# Altium schematic symbol library Timer_PLL.SchLib: 21 symbols
Pins are listed as number, name and electrical type; pins without a type are passive.

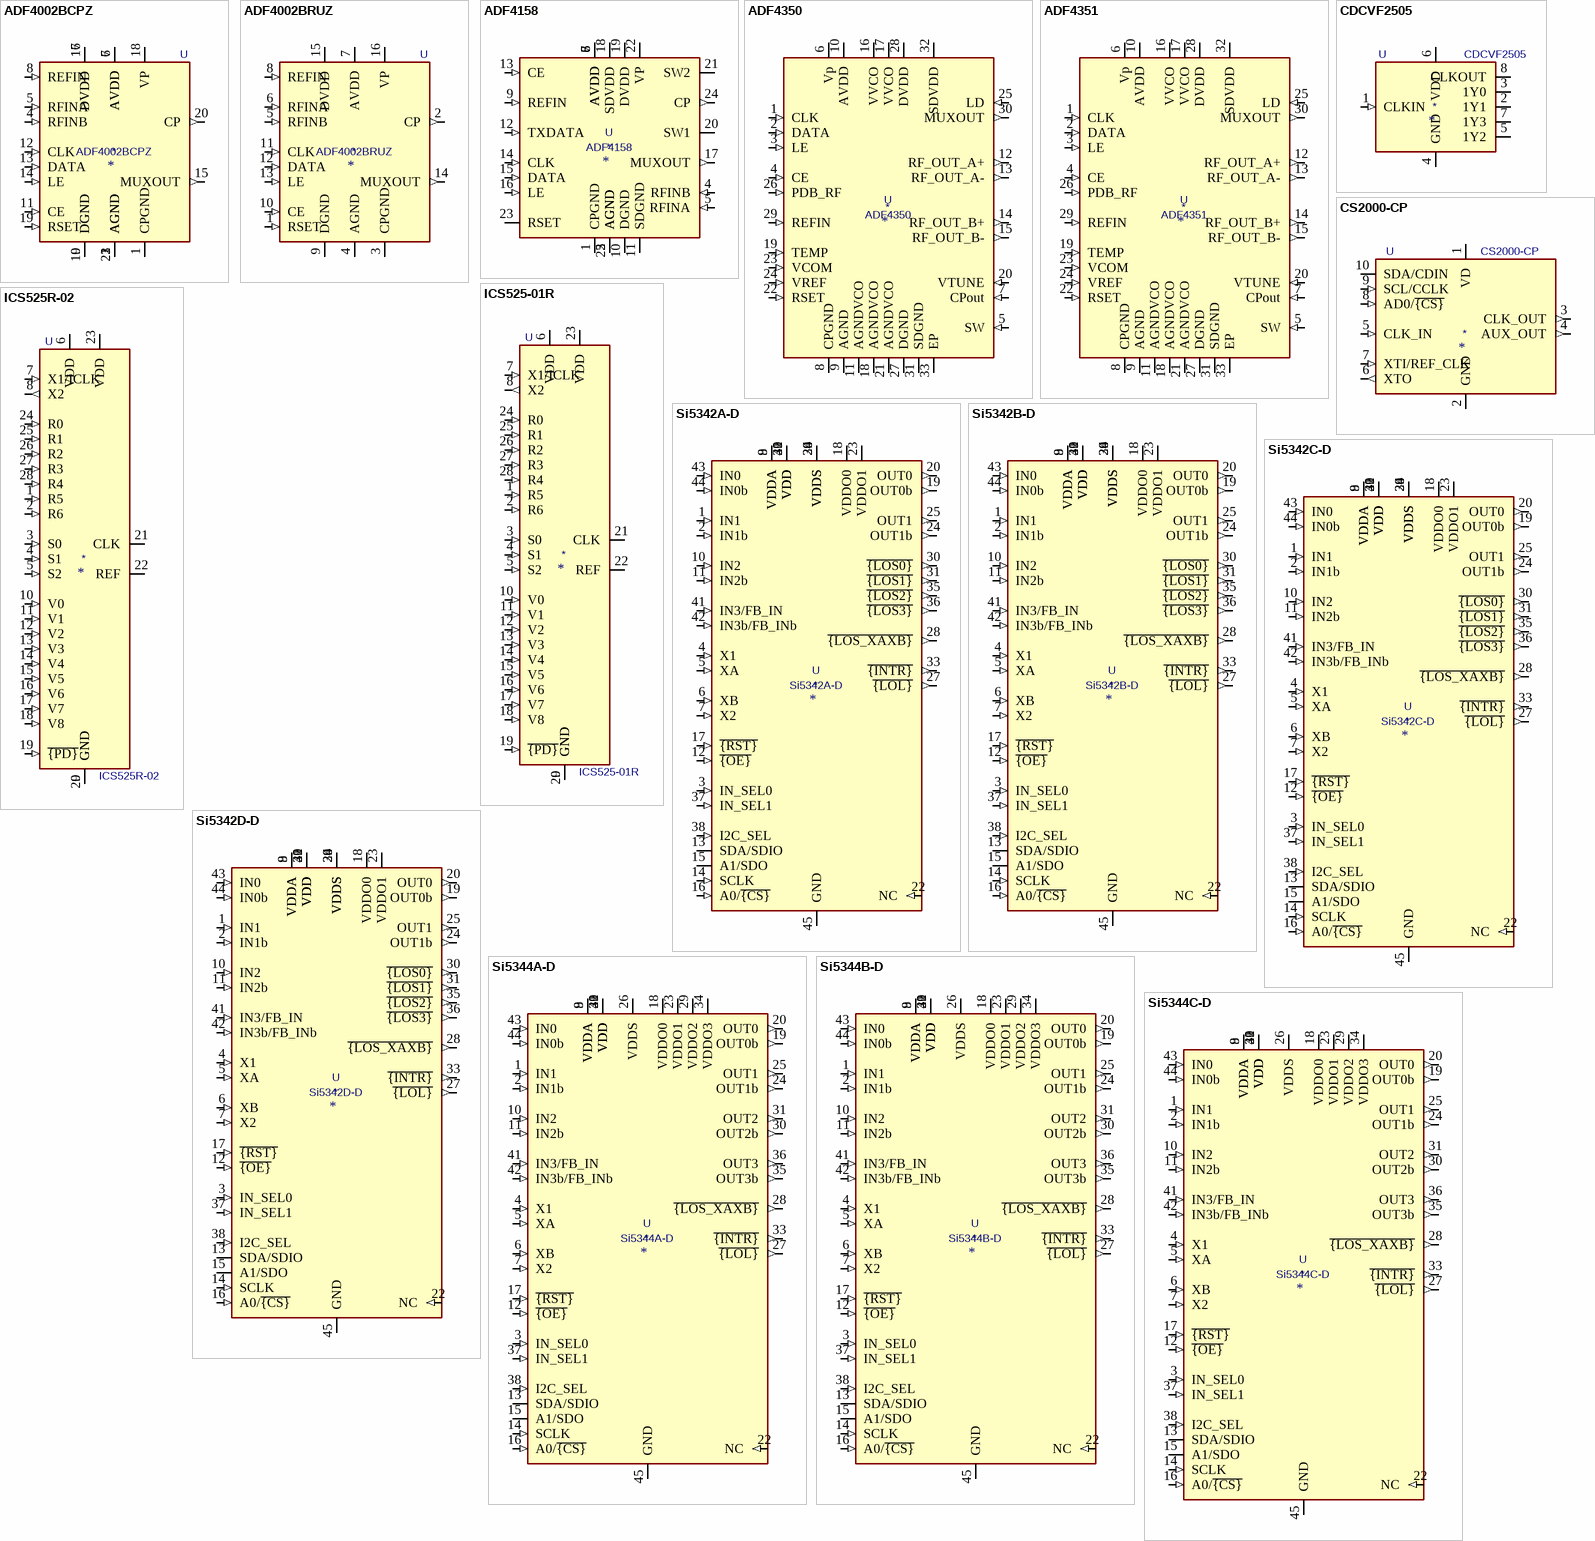
[diagram p0: symbols ADF4002BCPZ to Si5344C-D]

## ADF4002BCPZ
designator *  value ADF4002BCPZ  Reference: U
400MHz Bandwidth Frequency Synthesizer, LFCSP-20; ki_keywords: Analog Devices PFD; ki_fp_filters: LFCSP*1EP*4x4mm*P0.5mm*; Footprint: Package_CSP:LFCSP-20-1EP_4x4mm_P0.5mm_EP2.1x2.1mm; Datasheet: https://www.analog.com/media/en/technical-documentation/data-sheets/ADF4002.pdf; Description_: 400MHz Bandwidth Frequency Synthesizer, LFCSP-20
pins: 1 CPGND (power), 2 AGND (power), 3 AGND, 4 RFINB (in), 5 RFINA (in), 6 AVDD, 7 AVDD (power), 8 REFIN (in), 9 DGND (power), 10 DGND, 11 CE (in), 12 CLK (in), 13 DATA (in), 14 LE (in), 15 MUXOUT (out), 16 DVDD (power), 17 DVDD, 18 VP (power), 19 RSET (in), 20 CP (out), 21 AGND

## ADF4002BRUZ
designator *  value ADF4002BRUZ  Reference: U
400MHz Bandwidth Frequency Synthesizer, TSSOP-16; ki_keywords: Analog Devices PFD; ki_fp_filters: TSSOP*4.4x5mm*P0.65mm*; Footprint: Package_SO:TSSOP-16_4.4x5mm_P0.65mm; Datasheet: https://www.analog.com/media/en/technical-documentation/data-sheets/ADF4002.pdf; Description_: 400MHz Bandwidth Frequency Synthesizer, TSSOP-16
pins: 1 RSET (in), 2 CP (out), 3 CPGND (power), 4 AGND (power), 5 RFINB (in), 6 RFINA (in), 7 AVDD (power), 8 REFIN (in), 9 DGND (power), 10 CE (in), 11 CLK (in), 12 DATA (in), 13 LE (in), 14 MUXOUT (out), 15 DVDD (power), 16 VP (power)

## ADF4158
designator *  value ADF4158  Reference: U
0.5-6.1GHz fractional-N PLL, LFCSP-24; ki_fp_filters: LFCSP*1EP*4x4mm*P0.5mm*; Footprint: Package_CSP:LFCSP-24-1EP_4x4mm_P0.5mm_EP2.5x2.5mm; Datasheet: https://www.analog.com/media/en/technical-documentation/data-sheets/ADF4158.pdf; Description_: 0.5-6.1GHz fractional-N PLL, LFCSP-24; ki_keywords: fractional-N PLL
pins: 1 CPGND (power), 2 AGND (power), 3 AGND, 4 RFINB (in), 5 RFINA (in), 6 AVDD (power), 7 AVDD, 8 AVDD, 9 REFIN (in), 10 DGND (power), 11 SDGND (power), 12 TXDATA (in), 13 CE (in), 14 CLK (in), 15 DATA (in), 16 LE (in), 17 MUXOUT (out), 18 SDVDD (power), 19 DVDD (power), 20 SW1, 21 SW2, 22 VP (power), 23 RSET, 24 CP (out), 25 AGND

## ADF4350
designator *  value ADF4350  Reference: U
137.5-4400MHz fractional-N PLL, LFCSP-32; ki_fp_filters: LFCSP*32*1EP*5x5mm*P0.5mm*EP3.25x3.25mm*; Footprint: Package_CSP:LFCSP-32-1EP_5x5mm_P0.5mm_EP3.25x3.25mm; Datasheet: https://www.analog.com/media/en/technical-documentation/data-sheets/ADF4350.pdf; Description_: 137.5-4400MHz fractional-N PLL, LFCSP-32; ki_keywords: fractional-N PLL
pins: 1 CLK (in), 2 DATA (in), 3 LE (in), 4 CE (in), 5 SW (in), 6 Vp (power), 7 CPout (in), 8 CPGND (power), 9 AGND (power), 10 AVDD (power), 11 AGNDVCO (power), 12 RF_OUT_A+ (out), 13 RF_OUT_A- (out), 14 RF_OUT_B+ (out), 15 RF_OUT_B- (out), 16 VVCO (power), 17 VVCO (power), 18 AGNDVCO (power), 19 TEMP (in), 20 VTUNE (in), 21 AGNDVCO (power), 22 RSET (in), 23 VCOM (in), 24 VREF (in), 25 LD (in), 26 PDB_RF (in), 27 DGND (power), 28 DVDD (power), 29 REFIN (in), 30 MUXOUT (out), 31 SDGND (power), 32 SDVDD (power), 33 EP (power)

## ADF4351
designator *  value ADF4351  Reference: U
35-4400MHz fractional-N PLL, LFCSP-32; ki_fp_filters: LFCSP*32*1EP*5x5mm*P0.5mm*EP3.25x3.25mm*; Footprint: Package_CSP:LFCSP-32-1EP_5x5mm_P0.5mm_EP3.25x3.25mm; Datasheet: https://www.analog.com/media/en/technical-documentation/data-sheets/ADF4351.pdf; Description_: 35-4400MHz fractional-N PLL, LFCSP-32; ki_keywords: fractional-N PLL
pins: 1 CLK (in), 2 DATA (in), 3 LE (in), 4 CE (in), 5 SW (in), 6 Vp (power), 7 CPout (in), 8 CPGND (power), 9 AGND (power), 10 AVDD (power), 11 AGNDVCO (power), 12 RF_OUT_A+ (out), 13 RF_OUT_A- (out), 14 RF_OUT_B+ (out), 15 RF_OUT_B- (out), 16 VVCO (power), 17 VVCO (power), 18 AGNDVCO (power), 19 TEMP (in), 20 VTUNE (in), 21 AGNDVCO (power), 22 RSET (in), 23 VCOM (in), 24 VREF (in), 25 LD (in), 26 PDB_RF (in), 27 DGND (power), 28 DVDD (power), 29 REFIN (in), 30 MUXOUT (out), 31 SDGND (power), 32 SDVDD (power), 33 EP (power)

## CDCVF2505
designator *  value CDCVF2505  Reference: U
Clock Phase-Lock Loop Clock Driver, 24-200MHz, 3.3V, SOIC-8/TSSOP-8; ki_keywords: pll clock driver; ki_fp_filters: SOIC*3.9x4.9mm*P1.27mm* TSSOP*4.4x3mm*P0.65mm*; Datasheet: http://www.ti.com/lit/ds/symlink/cdcvf2505.pdf; Description_: Clock Phase-Lock Loop Clock Driver, 24-200MHz, 3.3V, SOIC-8/TSSOP-8
pins: 1 CLKIN (in), 2 1Y1 (hiz), 3 1Y0 (hiz), 4 GND (power), 5 1Y2 (hiz), 6 VDD (power), 7 1Y3 (hiz), 8 CLKOUT (hiz)

## CS2000-CP
designator *  value CS2000-CP  Reference: U
Fractional-N Clock Synthesizer & Clock Multiplier, MSOP-10; ki_keywords: Clock Synthesizer Multiplier; ki_fp_filters: MSOP*3x3mm*P0.5mm*; Footprint: Package_SO:MSOP-10_3x3mm_P0.5mm; Datasheet: https://statics.cirrus.com/pubs/proDatasheet/CS2000-CP_F3.pdf; Description_: Fractional-N Clock Synthesizer & Clock Multiplier, MSOP-10
pins: 1 VD (power), 2 GND (power), 3 CLK_OUT (out), 4 AUX_OUT (out), 5 CLK_IN (in), 6 XTO (out), 7 XTI/REF_CLK (in), 8 AD0/~{{CS}} (in), 9 SCL/CCLK (in), 10 SDA/CDIN (io)

## ICS525-01R
designator *  value ICS525-01R  Reference: U
User configurable clock up to 160 MHz, SSOP-28; ki_fp_filters: SSOP*3.9x9.9mm*P0.635mm*; Footprint: Package_SO:SSOP-28_3.9x9.9mm_P0.635mm; Datasheet: https://www.idt.com/document/dst/525-01-02-datasheet; Description_: User configurable clock up to 160 MHz, SSOP-28; ki_keywords: Configurable clock
pins: 1 R5 (in), 2 R6 (in), 3 S0 (in), 4 S1 (in), 5 S2 (in), 6 VDD (power), 7 X1/ICLK (in), 8 X2 (out), 9 GND (power), 10 V0 (in), 11 V1 (in), 12 V2 (in), 13 V3 (in), 14 V4 (in), 15 V5 (in), 16 V6 (in), 17 V7 (in), 18 V8 (in), 19 ~{{PD}} (in), 20 GND, 21 CLK (hiz), 22 REF (hiz), 23 VDD (power), 24 R0 (in), 25 R1 (in), 26 R2 (in), 27 R3 (in), 28 R4 (in)

## ICS525R-02
designator *  value ICS525R-02  Reference: U
User configurable clock up to 200 MHz, SSOP-28; ki_fp_filters: SSOP*3.9x9.9mm*P0.635mm*; Footprint: Package_SO:SSOP-28_3.9x9.9mm_P0.635mm; Datasheet: https://www.idt.com/document/dst/525-01-02-datasheet; Description_: User configurable clock up to 200 MHz, SSOP-28; ki_keywords: Configurable clock
pins: 1 R5 (in), 2 R6 (in), 3 S0 (in), 4 S1 (in), 5 S2 (in), 6 VDD (power), 7 X1/ICLK (in), 8 X2 (out), 9 GND (power), 10 V0 (in), 11 V1 (in), 12 V2 (in), 13 V3 (in), 14 V4 (in), 15 V5 (in), 16 V6 (in), 17 V7 (in), 18 V8 (in), 19 ~{{PD}} (in), 20 GND, 21 CLK (hiz), 22 REF (hiz), 23 VDD (power), 24 R0 (in), 25 R1 (in), 26 R2 (in), 27 R3 (in), 28 R4 (in)

## Si5342A-D
designator *  value Si5342A-D  Reference: U
Jitter Attenuator/Clock Multiplier, 2 channel, Fractional, 0.001-1028 MHz, QFN-44; ki_keywords: Clock Jitter Attenuator Multiplier; ki_fp_filters: QFN*1EP*7x7mm*P0.5mm*; Footprint: Package_DFN_QFN:QFN-44-1EP_7x7mm_P0.5mm_EP5.2x5.2mm; Datasheet: https://www.silabs.com/documents/public/data-sheets/Si5345-44-42-D-DataSheet.pdf; Description_: Jitter Attenuator/Clock Multiplier, 2 channel, Fractional, 0.001-1028 MHz, QFN-44
pins: 1 IN1 (in), 2 IN1b (in), 3 IN_SEL0 (in), 4 X1 (in), 5 XA (in), 6 XB (in), 7 X2 (in), 8 VDDA (power), 9 VDDA, 10 IN2 (in), 11 IN2b (in), 12 ~{{OE}} (in), 13 SDA/SDIO (io), 14 SCLK (in), 15 A1/SDO (io), 16 A0/~{{CS}} (in), 17 ~{{RST}} (in), 18 VDDO0 (power), 19 OUT0b (out), 20 OUT0 (out), 21 VDD (power), 22 NC (in), 23 VDDO1 (power), 24 OUT1b (out), 25 OUT1 (out), 26 VDDS (power), 27 ~{{LOL}} (out), 28 ~{{LOS_XAXB}} (out), 29 VDDS, 30 ~{{LOS0}} (out), 31 ~{{LOS1}} (out), 32 VDD, 33 ~{{INTR}} (out), 34 VDDS, 35 ~{{LOS2}} (out), 36 ~{{LOS3}} (out), 37 IN_SEL1 (in), 38 I2C_SEL (in), 39 VDD, 40 VDD, 41 IN3/FB_IN (in), 42 IN3b/FB_INb (in), 43 IN0 (in), 44 IN0b (in), 45 GND (power)

## Si5342B-D
designator *  value Si5342B-D  Reference: U
Jitter Attenuator/Clock Multiplier, 2 channel, Fractional, 0.001-350 MHz, QFN-44; ki_keywords: Clock Jitter Attenuator Multiplier; ki_fp_filters: QFN*1EP*7x7mm*P0.5mm*; Footprint: Package_DFN_QFN:QFN-44-1EP_7x7mm_P0.5mm_EP5.2x5.2mm; Datasheet: https://www.silabs.com/documents/public/data-sheets/Si5345-44-42-D-DataSheet.pdf; Description_: Jitter Attenuator/Clock Multiplier, 2 channel, Fractional, 0.001-350 MHz, QFN-44
pins: 1 IN1 (in), 2 IN1b (in), 3 IN_SEL0 (in), 4 X1 (in), 5 XA (in), 6 XB (in), 7 X2 (in), 8 VDDA (power), 9 VDDA, 10 IN2 (in), 11 IN2b (in), 12 ~{{OE}} (in), 13 SDA/SDIO (io), 14 SCLK (in), 15 A1/SDO (io), 16 A0/~{{CS}} (in), 17 ~{{RST}} (in), 18 VDDO0 (power), 19 OUT0b (out), 20 OUT0 (out), 21 VDD (power), 22 NC (in), 23 VDDO1 (power), 24 OUT1b (out), 25 OUT1 (out), 26 VDDS (power), 27 ~{{LOL}} (out), 28 ~{{LOS_XAXB}} (out), 29 VDDS, 30 ~{{LOS0}} (out), 31 ~{{LOS1}} (out), 32 VDD, 33 ~{{INTR}} (out), 34 VDDS, 35 ~{{LOS2}} (out), 36 ~{{LOS3}} (out), 37 IN_SEL1 (in), 38 I2C_SEL (in), 39 VDD, 40 VDD, 41 IN3/FB_IN (in), 42 IN3b/FB_INb (in), 43 IN0 (in), 44 IN0b (in), 45 GND (power)

## Si5342C-D
designator *  value Si5342C-D  Reference: U
Jitter Attenuator/Clock Multiplier, 2 channel, Integer, 0.001-1028 MHz, QFN-44; ki_keywords: Clock Jitter Attenuator Multiplier; ki_fp_filters: QFN*1EP*7x7mm*P0.5mm*; Footprint: Package_DFN_QFN:QFN-44-1EP_7x7mm_P0.5mm_EP5.2x5.2mm; Datasheet: https://www.silabs.com/documents/public/data-sheets/Si5345-44-42-D-DataSheet.pdf; Description_: Jitter Attenuator/Clock Multiplier, 2 channel, Integer, 0.001-1028 MHz, QFN-44
pins: 1 IN1 (in), 2 IN1b (in), 3 IN_SEL0 (in), 4 X1 (in), 5 XA (in), 6 XB (in), 7 X2 (in), 8 VDDA (power), 9 VDDA, 10 IN2 (in), 11 IN2b (in), 12 ~{{OE}} (in), 13 SDA/SDIO (io), 14 SCLK (in), 15 A1/SDO (io), 16 A0/~{{CS}} (in), 17 ~{{RST}} (in), 18 VDDO0 (power), 19 OUT0b (out), 20 OUT0 (out), 21 VDD (power), 22 NC (in), 23 VDDO1 (power), 24 OUT1b (out), 25 OUT1 (out), 26 VDDS (power), 27 ~{{LOL}} (out), 28 ~{{LOS_XAXB}} (out), 29 VDDS, 30 ~{{LOS0}} (out), 31 ~{{LOS1}} (out), 32 VDD, 33 ~{{INTR}} (out), 34 VDDS, 35 ~{{LOS2}} (out), 36 ~{{LOS3}} (out), 37 IN_SEL1 (in), 38 I2C_SEL (in), 39 VDD, 40 VDD, 41 IN3/FB_IN (in), 42 IN3b/FB_INb (in), 43 IN0 (in), 44 IN0b (in), 45 GND (power)

## Si5342D-D
designator *  value Si5342D-D  Reference: U
Jitter Attenuator/Clock Multiplier, 2 channel, Integer, 0.001-350 MHz, QFN-44; ki_keywords: Clock Jitter Attenuator Multiplier; ki_fp_filters: QFN*1EP*7x7mm*P0.5mm*; Footprint: Package_DFN_QFN:QFN-44-1EP_7x7mm_P0.5mm_EP5.2x5.2mm; Datasheet: https://www.silabs.com/documents/public/data-sheets/Si5345-44-42-D-DataSheet.pdf; Description_: Jitter Attenuator/Clock Multiplier, 2 channel, Integer, 0.001-350 MHz, QFN-44
pins: 1 IN1 (in), 2 IN1b (in), 3 IN_SEL0 (in), 4 X1 (in), 5 XA (in), 6 XB (in), 7 X2 (in), 8 VDDA (power), 9 VDDA, 10 IN2 (in), 11 IN2b (in), 12 ~{{OE}} (in), 13 SDA/SDIO (io), 14 SCLK (in), 15 A1/SDO (io), 16 A0/~{{CS}} (in), 17 ~{{RST}} (in), 18 VDDO0 (power), 19 OUT0b (out), 20 OUT0 (out), 21 VDD (power), 22 NC (in), 23 VDDO1 (power), 24 OUT1b (out), 25 OUT1 (out), 26 VDDS (power), 27 ~{{LOL}} (out), 28 ~{{LOS_XAXB}} (out), 29 VDDS, 30 ~{{LOS0}} (out), 31 ~{{LOS1}} (out), 32 VDD, 33 ~{{INTR}} (out), 34 VDDS, 35 ~{{LOS2}} (out), 36 ~{{LOS3}} (out), 37 IN_SEL1 (in), 38 I2C_SEL (in), 39 VDD, 40 VDD, 41 IN3/FB_IN (in), 42 IN3b/FB_INb (in), 43 IN0 (in), 44 IN0b (in), 45 GND (power)

## Si5344A-D
designator *  value Si5344A-D  Reference: U
Jitter Attenuator/Clock Multiplier, 4 channel, Fractional, 0.001-1028 MHz, QFN-44; ki_keywords: Clock Jitter Attenuator Multiplier; ki_fp_filters: QFN*1EP*7x7mm*P0.5mm*; Footprint: Package_DFN_QFN:QFN-44-1EP_7x7mm_P0.5mm_EP5.2x5.2mm; Datasheet: https://www.silabs.com/documents/public/data-sheets/Si5345-44-42-D-DataSheet.pdf; Description_: Jitter Attenuator/Clock Multiplier, 4 channel, Fractional, 0.001-1028 MHz, QFN-44
pins: 1 IN1 (in), 2 IN1b (in), 3 IN_SEL0 (in), 4 X1 (in), 5 XA (in), 6 XB (in), 7 X2 (in), 8 VDDA (power), 9 VDDA, 10 IN2 (in), 11 IN2b (in), 12 ~{{OE}} (in), 13 SDA/SDIO (io), 14 SCLK (in), 15 A1/SDO (io), 16 A0/~{{CS}} (in), 17 ~{{RST}} (in), 18 VDDO0 (power), 19 OUT0b (out), 20 OUT0 (out), 21 VDD (power), 22 NC (in), 23 VDDO1 (power), 24 OUT1b (out), 25 OUT1 (out), 26 VDDS (power), 27 ~{{LOL}} (out), 28 ~{{LOS_XAXB}} (out), 29 VDDO2 (power), 30 OUT2b (out), 31 OUT2 (out), 32 VDD, 33 ~{{INTR}} (out), 34 VDDO3 (power), 35 OUT3b (out), 36 OUT3 (out), 37 IN_SEL1 (in), 38 I2C_SEL (in), 39 VDD, 40 VDD, 41 IN3/FB_IN (in), 42 IN3b/FB_INb (in), 43 IN0 (in), 44 IN0b (in), 45 GND (power)

## Si5344B-D
designator *  value Si5344B-D  Reference: U
Jitter Attenuator/Clock Multiplier, 4 channel, Fractional, 0.001-350 MHz, QFN-44; ki_keywords: Clock Jitter Attenuator Multiplier; ki_fp_filters: QFN*1EP*7x7mm*P0.5mm*; Footprint: Package_DFN_QFN:QFN-44-1EP_7x7mm_P0.5mm_EP5.2x5.2mm; Datasheet: https://www.silabs.com/documents/public/data-sheets/Si5345-44-42-D-DataSheet.pdf; Description_: Jitter Attenuator/Clock Multiplier, 4 channel, Fractional, 0.001-350 MHz, QFN-44
pins: 1 IN1 (in), 2 IN1b (in), 3 IN_SEL0 (in), 4 X1 (in), 5 XA (in), 6 XB (in), 7 X2 (in), 8 VDDA (power), 9 VDDA, 10 IN2 (in), 11 IN2b (in), 12 ~{{OE}} (in), 13 SDA/SDIO (io), 14 SCLK (in), 15 A1/SDO (io), 16 A0/~{{CS}} (in), 17 ~{{RST}} (in), 18 VDDO0 (power), 19 OUT0b (out), 20 OUT0 (out), 21 VDD (power), 22 NC (in), 23 VDDO1 (power), 24 OUT1b (out), 25 OUT1 (out), 26 VDDS (power), 27 ~{{LOL}} (out), 28 ~{{LOS_XAXB}} (out), 29 VDDO2 (power), 30 OUT2b (out), 31 OUT2 (out), 32 VDD, 33 ~{{INTR}} (out), 34 VDDO3 (power), 35 OUT3b (out), 36 OUT3 (out), 37 IN_SEL1 (in), 38 I2C_SEL (in), 39 VDD, 40 VDD, 41 IN3/FB_IN (in), 42 IN3b/FB_INb (in), 43 IN0 (in), 44 IN0b (in), 45 GND (power)

## Si5344C-D
designator *  value Si5344C-D  Reference: U
Jitter Attenuator/Clock Multiplier, 4 channel, Integer, 0.001-1028 MHz, QFN-44; ki_keywords: Clock Jitter Attenuator Multiplier; ki_fp_filters: QFN*1EP*7x7mm*P0.5mm*; Footprint: Package_DFN_QFN:QFN-44-1EP_7x7mm_P0.5mm_EP5.2x5.2mm; Datasheet: https://www.silabs.com/documents/public/data-sheets/Si5345-44-42-D-DataSheet.pdf; Description_: Jitter Attenuator/Clock Multiplier, 4 channel, Integer, 0.001-1028 MHz, QFN-44
pins: 1 IN1 (in), 2 IN1b (in), 3 IN_SEL0 (in), 4 X1 (in), 5 XA (in), 6 XB (in), 7 X2 (in), 8 VDDA (power), 9 VDDA, 10 IN2 (in), 11 IN2b (in), 12 ~{{OE}} (in), 13 SDA/SDIO (io), 14 SCLK (in), 15 A1/SDO (io), 16 A0/~{{CS}} (in), 17 ~{{RST}} (in), 18 VDDO0 (power), 19 OUT0b (out), 20 OUT0 (out), 21 VDD (power), 22 NC (in), 23 VDDO1 (power), 24 OUT1b (out), 25 OUT1 (out), 26 VDDS (power), 27 ~{{LOL}} (out), 28 ~{{LOS_XAXB}} (out), 29 VDDO2 (power), 30 OUT2b (out), 31 OUT2 (out), 32 VDD, 33 ~{{INTR}} (out), 34 VDDO3 (power), 35 OUT3b (out), 36 OUT3 (out), 37 IN_SEL1 (in), 38 I2C_SEL (in), 39 VDD, 40 VDD, 41 IN3/FB_IN (in), 42 IN3b/FB_INb (in), 43 IN0 (in), 44 IN0b (in), 45 GND (power)

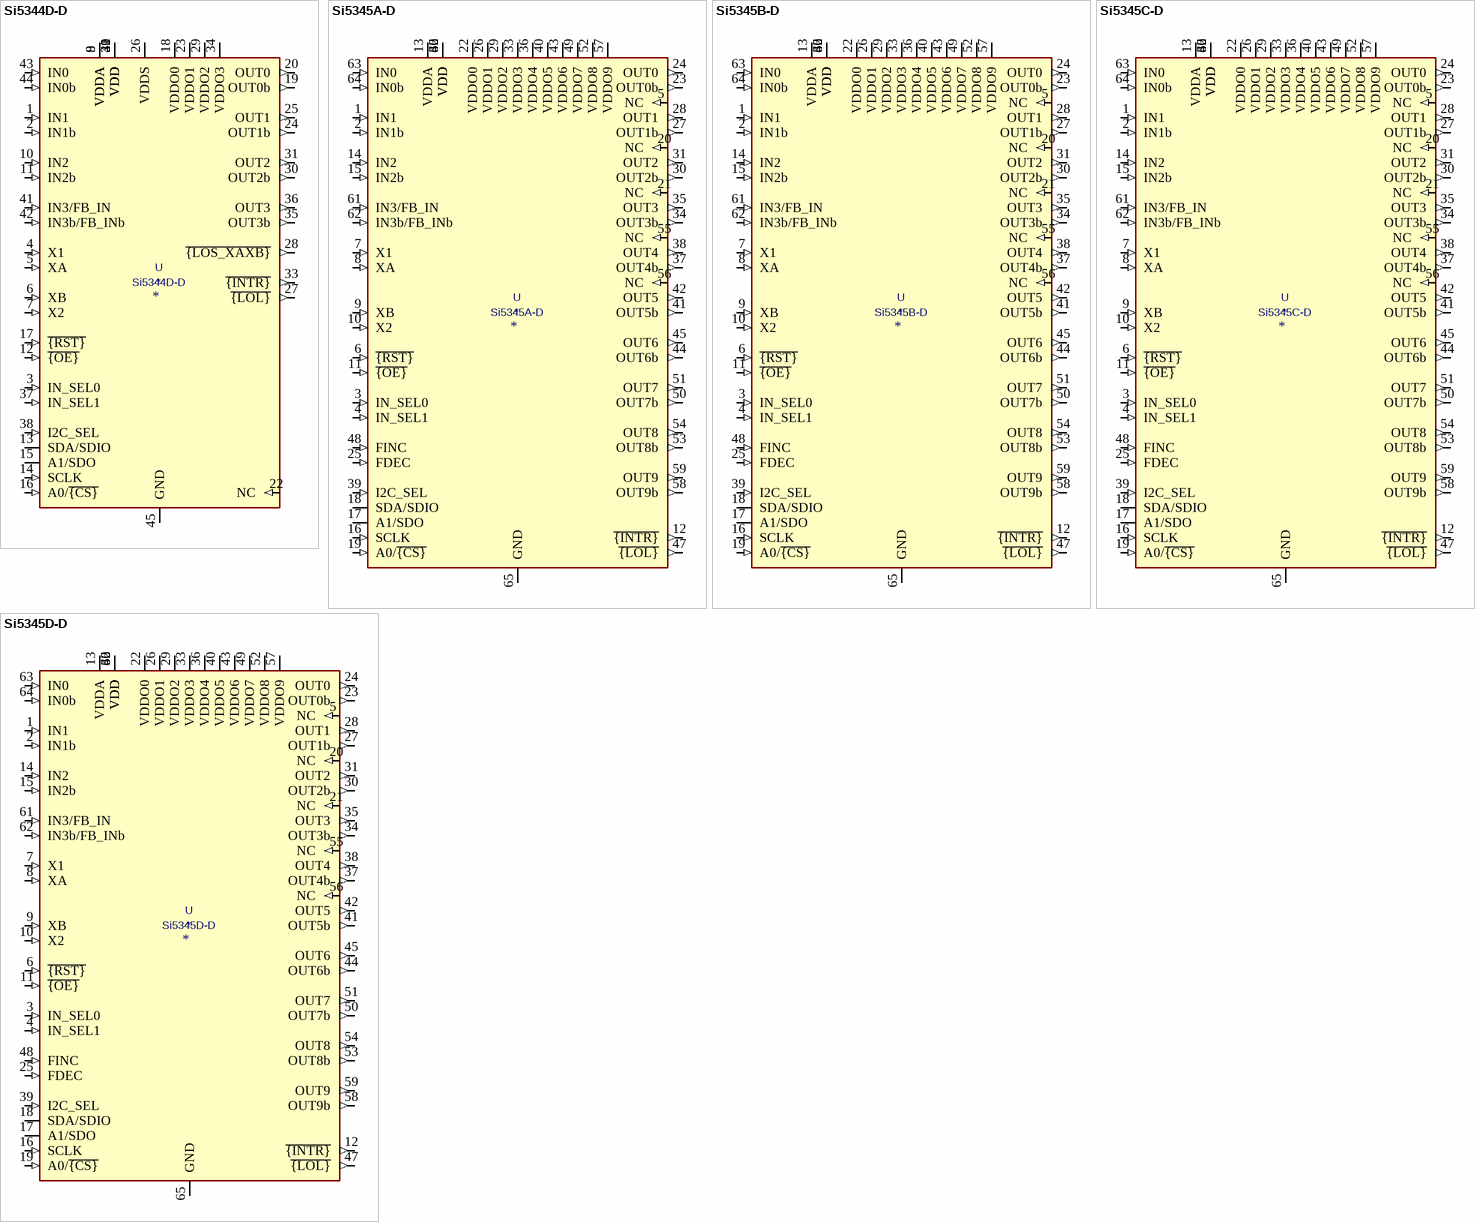
[diagram p1: symbols Si5344D-D to Si5345D-D]

## Si5344D-D
designator *  value Si5344D-D  Reference: U
Jitter Attenuator/Clock Multiplier, 4 channel, Integer, 0.001-350 MHz, QFN-44; ki_keywords: Clock Jitter Attenuator Multiplier; ki_fp_filters: QFN*1EP*7x7mm*P0.5mm*; Footprint: Package_DFN_QFN:QFN-44-1EP_7x7mm_P0.5mm_EP5.2x5.2mm; Datasheet: https://www.silabs.com/documents/public/data-sheets/Si5345-44-42-D-DataSheet.pdf; Description_: Jitter Attenuator/Clock Multiplier, 4 channel, Integer, 0.001-350 MHz, QFN-44
pins: 1 IN1 (in), 2 IN1b (in), 3 IN_SEL0 (in), 4 X1 (in), 5 XA (in), 6 XB (in), 7 X2 (in), 8 VDDA (power), 9 VDDA, 10 IN2 (in), 11 IN2b (in), 12 ~{{OE}} (in), 13 SDA/SDIO (io), 14 SCLK (in), 15 A1/SDO (io), 16 A0/~{{CS}} (in), 17 ~{{RST}} (in), 18 VDDO0 (power), 19 OUT0b (out), 20 OUT0 (out), 21 VDD (power), 22 NC (in), 23 VDDO1 (power), 24 OUT1b (out), 25 OUT1 (out), 26 VDDS (power), 27 ~{{LOL}} (out), 28 ~{{LOS_XAXB}} (out), 29 VDDO2 (power), 30 OUT2b (out), 31 OUT2 (out), 32 VDD, 33 ~{{INTR}} (out), 34 VDDO3 (power), 35 OUT3b (out), 36 OUT3 (out), 37 IN_SEL1 (in), 38 I2C_SEL (in), 39 VDD, 40 VDD, 41 IN3/FB_IN (in), 42 IN3b/FB_INb (in), 43 IN0 (in), 44 IN0b (in), 45 GND (power)

## Si5345A-D
designator *  value Si5345A-D  Reference: U
Jitter Attenuator/Clock Multiplier, 10-channel, Fractional, 0.001-1028 MHz, QFN-64; ki_keywords: Clock Jitter Attenuator Multiplier; ki_fp_filters: QFN*1EP*9x9mm*P0.5mm*; Footprint: Package_DFN_QFN:QFN-64-1EP_9x9mm_P0.5mm_EP5.2x5.2mm; Datasheet: https://www.silabs.com/documents/public/data-sheets/Si5345-44-42-D-DataSheet.pdf; Description_: Jitter Attenuator/Clock Multiplier, 10-channel, Fractional, 0.001-1028 MHz, QFN-64
pins: 1 IN1 (in), 2 IN1b (in), 3 IN_SEL0 (in), 4 IN_SEL1 (in), 5 NC (in), 6 ~{{RST}} (in), 7 X1 (in), 8 XA (in), 9 XB (in), 10 X2 (in), 11 ~{{OE}} (in), 12 ~{{INTR}} (out), 13 VDDA (power), 14 IN2 (in), 15 IN2b (in), 16 SCLK (in), 17 A1/SDO (io), 18 SDA/SDIO (io), 19 A0/~{{CS}} (in), 20 NC (in), 21 NC (in), 22 VDDO0 (power), 23 OUT0b (out), 24 OUT0 (out), 25 FDEC (in), 26 VDDO1 (power), 27 OUT1b (out), 28 OUT1 (out), 29 VDDO2 (power), 30 OUT2b (out), 31 OUT2 (out), 32 VDD (power), 33 VDDO3 (power), 34 OUT3b (out), 35 OUT3 (out), 36 VDDO4 (power), 37 OUT4b (out), 38 OUT4 (out), 39 I2C_SEL (in), 40 VDDO5 (power), 41 OUT5b (out), 42 OUT5 (out), 43 VDDO6 (power), 44 OUT6b (out), 45 OUT6 (out), 46 VDD, 47 ~{{LOL}} (out), 48 FINC (in), 49 VDDO7 (power), 50 OUT7b (out), 51 OUT7 (out), 52 VDDO8 (power), 53 OUT8b (out), 54 OUT8 (out), 55 NC (in), 56 NC (in), 57 VDDO9 (power), 58 OUT9b (out), 59 OUT9 (out), 60 VDD, 61 IN3/FB_IN (in), 62 IN3b/FB_INb (in), 63 IN0 (in), 64 IN0b (in), 65 GND (power)

## Si5345B-D
designator *  value Si5345B-D  Reference: U
Jitter Attenuator/Clock Multiplier, 10-channel, Fractional, 0.001-350 MHz, QFN-64; ki_keywords: Clock Jitter Attenuator Multiplier; ki_fp_filters: QFN*1EP*9x9mm*P0.5mm*; Footprint: Package_DFN_QFN:QFN-64-1EP_9x9mm_P0.5mm_EP5.2x5.2mm; Datasheet: https://www.silabs.com/documents/public/data-sheets/Si5345-44-42-D-DataSheet.pdf; Description_: Jitter Attenuator/Clock Multiplier, 10-channel, Fractional, 0.001-350 MHz, QFN-64
pins: 1 IN1 (in), 2 IN1b (in), 3 IN_SEL0 (in), 4 IN_SEL1 (in), 5 NC (in), 6 ~{{RST}} (in), 7 X1 (in), 8 XA (in), 9 XB (in), 10 X2 (in), 11 ~{{OE}} (in), 12 ~{{INTR}} (out), 13 VDDA (power), 14 IN2 (in), 15 IN2b (in), 16 SCLK (in), 17 A1/SDO (io), 18 SDA/SDIO (io), 19 A0/~{{CS}} (in), 20 NC (in), 21 NC (in), 22 VDDO0 (power), 23 OUT0b (out), 24 OUT0 (out), 25 FDEC (in), 26 VDDO1 (power), 27 OUT1b (out), 28 OUT1 (out), 29 VDDO2 (power), 30 OUT2b (out), 31 OUT2 (out), 32 VDD (power), 33 VDDO3 (power), 34 OUT3b (out), 35 OUT3 (out), 36 VDDO4 (power), 37 OUT4b (out), 38 OUT4 (out), 39 I2C_SEL (in), 40 VDDO5 (power), 41 OUT5b (out), 42 OUT5 (out), 43 VDDO6 (power), 44 OUT6b (out), 45 OUT6 (out), 46 VDD, 47 ~{{LOL}} (out), 48 FINC (in), 49 VDDO7 (power), 50 OUT7b (out), 51 OUT7 (out), 52 VDDO8 (power), 53 OUT8b (out), 54 OUT8 (out), 55 NC (in), 56 NC (in), 57 VDDO9 (power), 58 OUT9b (out), 59 OUT9 (out), 60 VDD, 61 IN3/FB_IN (in), 62 IN3b/FB_INb (in), 63 IN0 (in), 64 IN0b (in), 65 GND (power)

## Si5345C-D
designator *  value Si5345C-D  Reference: U
Jitter Attenuator/Clock Multiplier, 10-channel, Integer, 0.001-1028 MHz, QFN-64; ki_keywords: Clock Jitter Attenuator Multiplier; ki_fp_filters: QFN*1EP*9x9mm*P0.5mm*; Footprint: Package_DFN_QFN:QFN-64-1EP_9x9mm_P0.5mm_EP5.2x5.2mm; Datasheet: https://www.silabs.com/documents/public/data-sheets/Si5345-44-42-D-DataSheet.pdf; Description_: Jitter Attenuator/Clock Multiplier, 10-channel, Integer, 0.001-1028 MHz, QFN-64
pins: 1 IN1 (in), 2 IN1b (in), 3 IN_SEL0 (in), 4 IN_SEL1 (in), 5 NC (in), 6 ~{{RST}} (in), 7 X1 (in), 8 XA (in), 9 XB (in), 10 X2 (in), 11 ~{{OE}} (in), 12 ~{{INTR}} (out), 13 VDDA (power), 14 IN2 (in), 15 IN2b (in), 16 SCLK (in), 17 A1/SDO (io), 18 SDA/SDIO (io), 19 A0/~{{CS}} (in), 20 NC (in), 21 NC (in), 22 VDDO0 (power), 23 OUT0b (out), 24 OUT0 (out), 25 FDEC (in), 26 VDDO1 (power), 27 OUT1b (out), 28 OUT1 (out), 29 VDDO2 (power), 30 OUT2b (out), 31 OUT2 (out), 32 VDD (power), 33 VDDO3 (power), 34 OUT3b (out), 35 OUT3 (out), 36 VDDO4 (power), 37 OUT4b (out), 38 OUT4 (out), 39 I2C_SEL (in), 40 VDDO5 (power), 41 OUT5b (out), 42 OUT5 (out), 43 VDDO6 (power), 44 OUT6b (out), 45 OUT6 (out), 46 VDD, 47 ~{{LOL}} (out), 48 FINC (in), 49 VDDO7 (power), 50 OUT7b (out), 51 OUT7 (out), 52 VDDO8 (power), 53 OUT8b (out), 54 OUT8 (out), 55 NC (in), 56 NC (in), 57 VDDO9 (power), 58 OUT9b (out), 59 OUT9 (out), 60 VDD, 61 IN3/FB_IN (in), 62 IN3b/FB_INb (in), 63 IN0 (in), 64 IN0b (in), 65 GND (power)

## Si5345D-D
designator *  value Si5345D-D  Reference: U
Jitter Attenuator/Clock Multiplier, 10-channel, Integer, 0.001-350 MHz, QFN-64; ki_keywords: Clock Jitter Attenuator Multiplier; ki_fp_filters: QFN*1EP*9x9mm*P0.5mm*; Footprint: Package_DFN_QFN:QFN-64-1EP_9x9mm_P0.5mm_EP5.2x5.2mm; Datasheet: https://www.silabs.com/documents/public/data-sheets/Si5345-44-42-D-DataSheet.pdf; Description_: Jitter Attenuator/Clock Multiplier, 10-channel, Integer, 0.001-350 MHz, QFN-64
pins: 1 IN1 (in), 2 IN1b (in), 3 IN_SEL0 (in), 4 IN_SEL1 (in), 5 NC (in), 6 ~{{RST}} (in), 7 X1 (in), 8 XA (in), 9 XB (in), 10 X2 (in), 11 ~{{OE}} (in), 12 ~{{INTR}} (out), 13 VDDA (power), 14 IN2 (in), 15 IN2b (in), 16 SCLK (in), 17 A1/SDO (io), 18 SDA/SDIO (io), 19 A0/~{{CS}} (in), 20 NC (in), 21 NC (in), 22 VDDO0 (power), 23 OUT0b (out), 24 OUT0 (out), 25 FDEC (in), 26 VDDO1 (power), 27 OUT1b (out), 28 OUT1 (out), 29 VDDO2 (power), 30 OUT2b (out), 31 OUT2 (out), 32 VDD (power), 33 VDDO3 (power), 34 OUT3b (out), 35 OUT3 (out), 36 VDDO4 (power), 37 OUT4b (out), 38 OUT4 (out), 39 I2C_SEL (in), 40 VDDO5 (power), 41 OUT5b (out), 42 OUT5 (out), 43 VDDO6 (power), 44 OUT6b (out), 45 OUT6 (out), 46 VDD, 47 ~{{LOL}} (out), 48 FINC (in), 49 VDDO7 (power), 50 OUT7b (out), 51 OUT7 (out), 52 VDDO8 (power), 53 OUT8b (out), 54 OUT8 (out), 55 NC (in), 56 NC (in), 57 VDDO9 (power), 58 OUT9b (out), 59 OUT9 (out), 60 VDD, 61 IN3/FB_IN (in), 62 IN3b/FB_INb (in), 63 IN0 (in), 64 IN0b (in), 65 GND (power)